# Altium schematic symbol library kmilo17pet-LT_OpAmp_LT1000.SchLib: 2280 symbols (part 71 of 79)
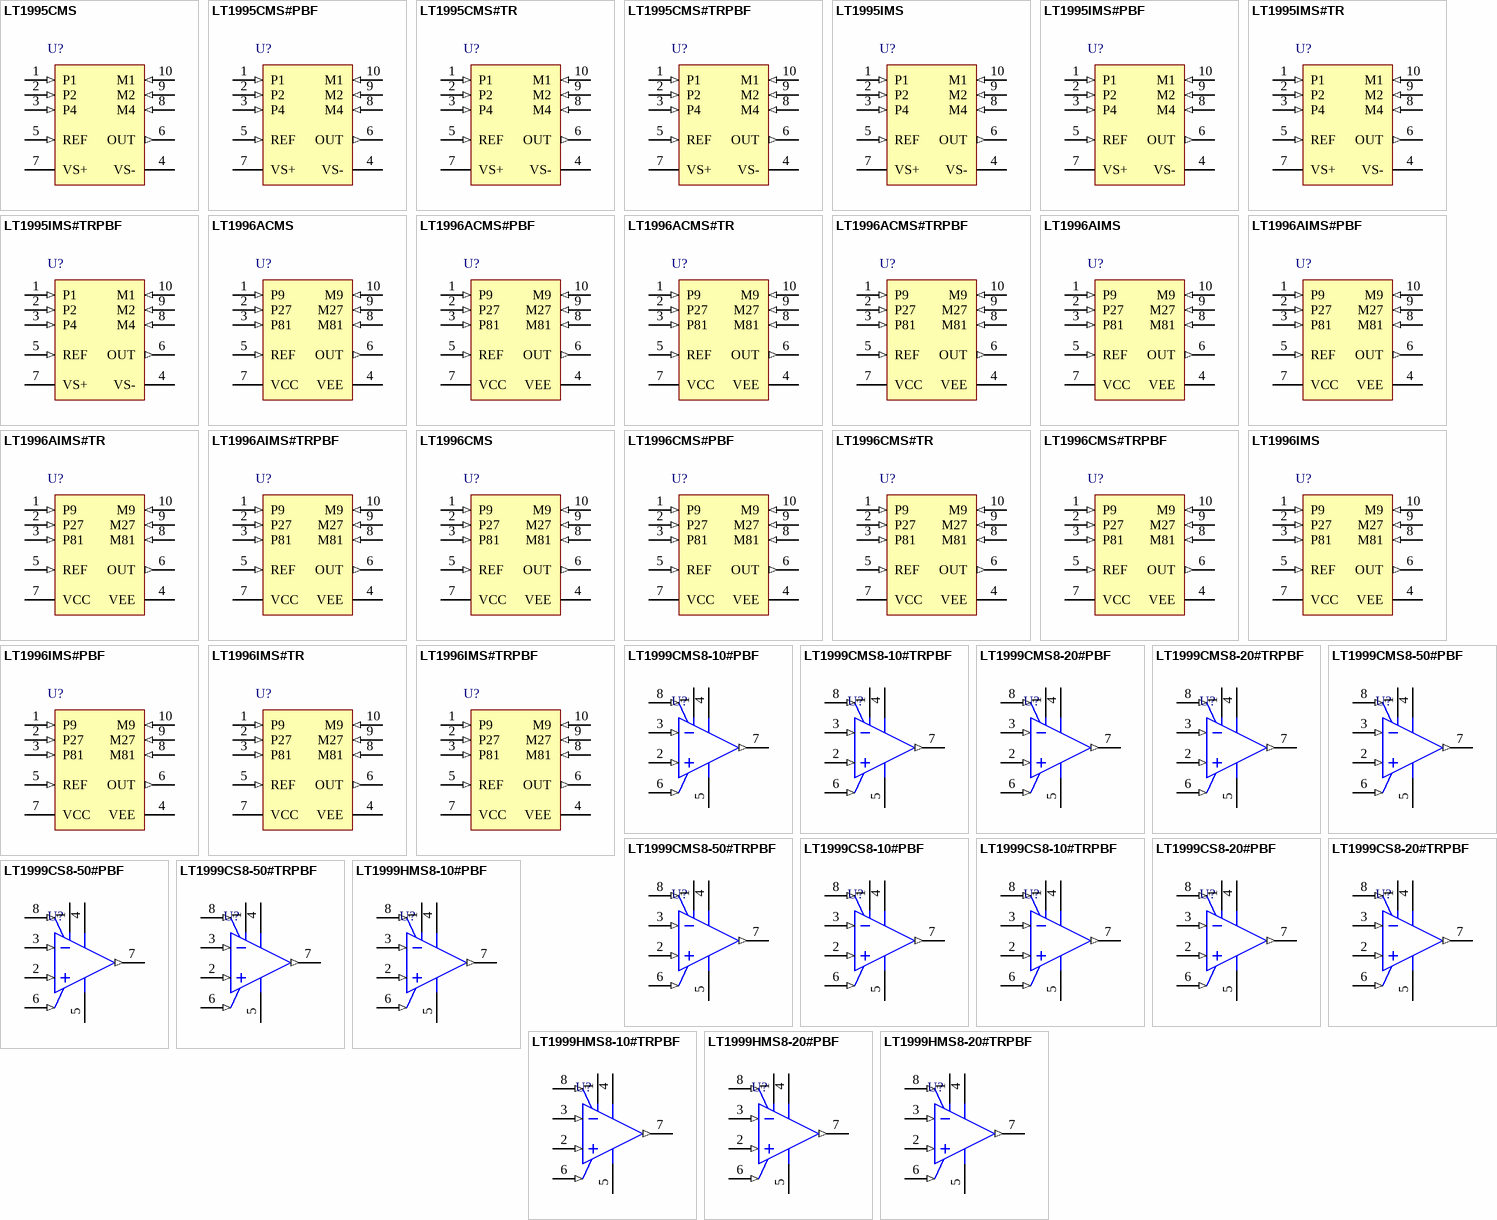
[diagram p175: symbols LT1995CMS to LT1999HMS8-20#TRPBF]

## LT1999HMS8-20#TRPBF
designator U?
Single Channel, High Voltage, Bidirectional Current Sense Amplifier, 2 MHz Typical GBW, 3 V/us Typical SR, 4.5 to 5.5 V, 8-Pin SOP (MS8-8), High Temperature / Automotive, Pb-Free, Reel; Linear Technology Part Number: LT1999-20; Manufacturer: Linear Technology; PartNumber: LT1999HMS8-20#TRPBF; Channels (#): 1; GBW (MHz) Typical: 2; Is (mA) Typical: 1.55; SR (V/us) Typical: 3; Vos (mV) Typical: 0.5; Vs Max (V): 5.5; Vs Min (V): 4.5; DatasheetVersion: Rev. B; PackageVersion: Rev G; PackageReference: LT-MS8-8; PackageDescription: 8-Lead Plastic Small Outline, Body 3.9 x 4.9 mm, Pitch 1.27 mm; Supplier 1: Digi-Key; Supplier Part Number 1: LT1999HMS8-20#TRPBF-ND; Packing: Reel; RoHS: Pb-Free; Type: CSA; Mounting Technology: Surface Mount; ComponentLink1Description: Manufacturer URL; ComponentLink1URL: http://www.linear.com/; ComponentLink2Description: Datasheet; ComponentLink2URL: http://cds.linear.com/docs/en/datasheet/1999fb.pdf; ComponentLink3Description: Package Specification; ComponentLink3URL: http://cds.linear.com/docs/en/packaging/05081610_G_SO8.pdf
footprint LT-MS8-8_N (SOP, 8-Leads, Body 3x3mm, Pitch 0.65mm, IPC Medium Density)
footprint LT-MS8-8_L (SOP, 8-Leads, Body 3x3mm, Pitch 0.65mm, IPC High Density)
footprint LT-MS8-8_M (SOP, 8-Leads, Body 3x3mm, Pitch 0.65mm, IPC Low Density)
pins: 1 V+ (power) "Power Supply Voltage. Pins 1 and 4 are tied internally together. The specified range of operation is 4.5V to 5.5V, but lower supply voltages (down to approximately 4V) is possible although the LT1999 is not tested or (See Datasheet)", 2 +IN (in) "Positive Sense Input Pin.", 3 -IN (in) "Negative Sense Input Pin.", 4 V+ (power) "Power Supply Voltage. Pins 1 and 4 are tied internally together. The specified range of operation is 4.5V to 5.5V, but lower supply voltages (down to approximately 4V) is possible although the LT1999 is not tested or (See Datasheet)", 5 GND (power) "Ground Pin.", 6 REF (in) "Reference Pin Input. The REF pin sets the output common mode level and is set halfway between V+ and GND using a divider made of two 160k resistors. The default open circuit potential of the REF pin is mid-supply. It can be (See Datasheet)", 7 OUT (out) "Voltage Output. VOUT = AV•(VSENSE +/- VOSI), where AV is the gain, and VOSI is the input referred offset voltage. The output amplifier has a low impedance output and is designed to drive up to 200pF capacitive loads directly.(See Datasheet)", 8 ~{SHDN} (in) "Shutdown Pin. When pulled to within 0.5V of GND (Pin 5), will place the LT1999 into low power shutdown. If the pin is left floating, an internal 2uA pullup current source will place the LT1999 into the active (amplifying) (See Datasheet)"

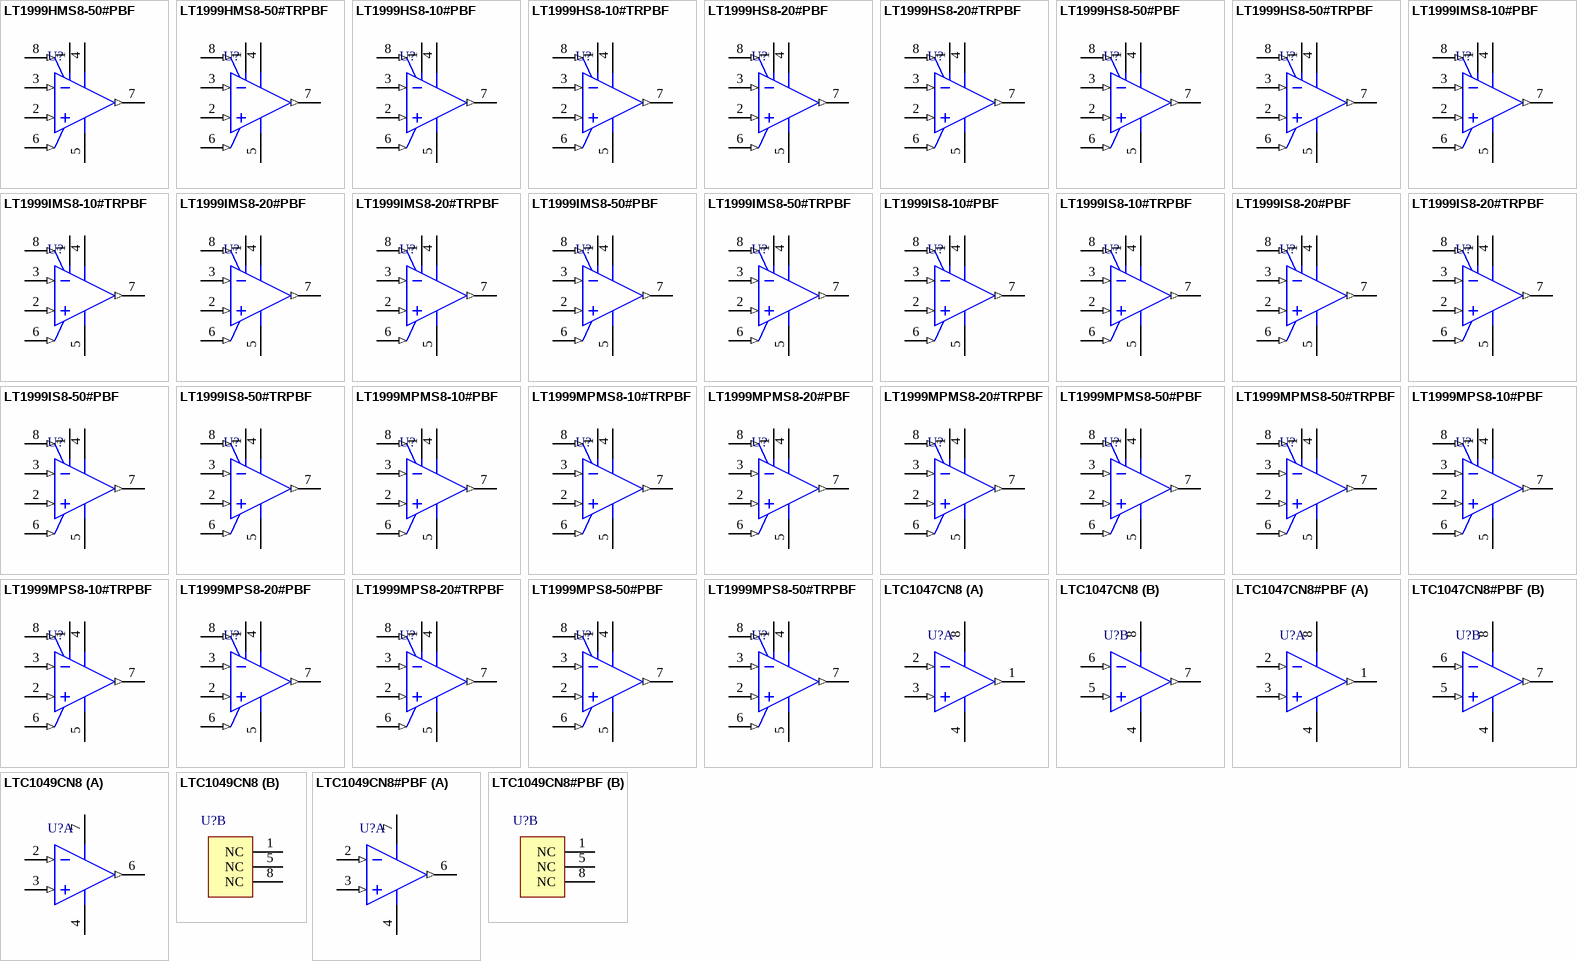
[diagram p100: symbols LT1999HMS8-50#PBF to LTC1049CN8#PBF]

## LT1999HMS8-50#PBF
designator U?
Single Channel, High Voltage, Bidirectional Current Sense Amplifier, 2 MHz Typical GBW, 3 V/us Typical SR, 4.5 to 5.5 V, 8-Pin SOP (MS8-8), High Temperature / Automotive, Pb-Free; Linear Technology Part Number: LT1999-50; Manufacturer: Linear Technology; PartNumber: LT1999HMS8-50#PBF; Channels (#): 1; GBW (MHz) Typical: 2; Is (mA) Typical: 1.55; SR (V/us) Typical: 3; Vos (mV) Typical: 0.5; Vs Max (V): 5.5; Vs Min (V): 4.5; DatasheetVersion: Rev. B; PackageVersion: Rev G; PackageReference: LT-MS8-8; PackageDescription: 8-Lead Plastic Small Outline, Body 3.9 x 4.9 mm, Pitch 1.27 mm; Supplier 1: Digi-Key; Supplier Part Number 1: LT1999HMS8-50#PBF-ND; Supplier 2: Farnell; Supplier Part Number 2: 1868099; RoHS: Pb-Free; Type: CSA; Mounting Technology: Surface Mount; ComponentLink1Description: Manufacturer URL; ComponentLink1URL: http://www.linear.com/; ComponentLink2Description: Datasheet; ComponentLink2URL: http://cds.linear.com/docs/en/datasheet/1999fb.pdf; ComponentLink3Description: Package Specification; ComponentLink3URL: http://cds.linear.com/docs/en/packaging/05081610_G_SO8.pdf
footprint LT-MS8-8_N (SOP, 8-Leads, Body 3x3mm, Pitch 0.65mm, IPC Medium Density)
footprint LT-MS8-8_L (SOP, 8-Leads, Body 3x3mm, Pitch 0.65mm, IPC High Density)
footprint LT-MS8-8_M (SOP, 8-Leads, Body 3x3mm, Pitch 0.65mm, IPC Low Density)
pins: 1 V+ (power) "Power Supply Voltage. Pins 1 and 4 are tied internally together. The specified range of operation is 4.5V to 5.5V, but lower supply voltages (down to approximately 4V) is possible although the LT1999 is not tested or (See Datasheet)", 2 +IN (in) "Positive Sense Input Pin.", 3 -IN (in) "Negative Sense Input Pin.", 4 V+ (power) "Power Supply Voltage. Pins 1 and 4 are tied internally together. The specified range of operation is 4.5V to 5.5V, but lower supply voltages (down to approximately 4V) is possible although the LT1999 is not tested or (See Datasheet)", 5 GND (power) "Ground Pin.", 6 REF (in) "Reference Pin Input. The REF pin sets the output common mode level and is set halfway between V+ and GND using a divider made of two 160k resistors. The default open circuit potential of the REF pin is mid-supply. It can be (See Datasheet)", 7 OUT (out) "Voltage Output. VOUT = AV•(VSENSE +/- VOSI), where AV is the gain, and VOSI is the input referred offset voltage. The output amplifier has a low impedance output and is designed to drive up to 200pF capacitive loads directly.(See Datasheet)", 8 ~{SHDN} (in) "Shutdown Pin. When pulled to within 0.5V of GND (Pin 5), will place the LT1999 into low power shutdown. If the pin is left floating, an internal 2uA pullup current source will place the LT1999 into the active (amplifying) (See Datasheet)"

## LT1999HMS8-50#TRPBF
designator U?
Single Channel, High Voltage, Bidirectional Current Sense Amplifier, 2 MHz Typical GBW, 3 V/us Typical SR, 4.5 to 5.5 V, 8-Pin SOP (MS8-8), High Temperature / Automotive, Pb-Free, Reel; Linear Technology Part Number: LT1999-50; Manufacturer: Linear Technology; PartNumber: LT1999HMS8-50#TRPBF; Channels (#): 1; GBW (MHz) Typical: 2; Is (mA) Typical: 1.55; SR (V/us) Typical: 3; Vos (mV) Typical: 0.5; Vs Max (V): 5.5; Vs Min (V): 4.5; DatasheetVersion: Rev. B; PackageVersion: Rev G; PackageReference: LT-MS8-8; PackageDescription: 8-Lead Plastic Small Outline, Body 3.9 x 4.9 mm, Pitch 1.27 mm; Supplier 1: Digi-Key; Supplier Part Number 1: LT1999HMS8-50#TRPBF-ND; Packing: Reel; RoHS: Pb-Free; Type: CSA; Mounting Technology: Surface Mount; ComponentLink1Description: Manufacturer URL; ComponentLink1URL: http://www.linear.com/; ComponentLink2Description: Datasheet; ComponentLink2URL: http://cds.linear.com/docs/en/datasheet/1999fb.pdf; ComponentLink3Description: Package Specification; ComponentLink3URL: http://cds.linear.com/docs/en/packaging/05081610_G_SO8.pdf
footprint LT-MS8-8_N (SOP, 8-Leads, Body 3x3mm, Pitch 0.65mm, IPC Medium Density)
footprint LT-MS8-8_L (SOP, 8-Leads, Body 3x3mm, Pitch 0.65mm, IPC High Density)
footprint LT-MS8-8_M (SOP, 8-Leads, Body 3x3mm, Pitch 0.65mm, IPC Low Density)
pins: 1 V+ (power) "Power Supply Voltage. Pins 1 and 4 are tied internally together. The specified range of operation is 4.5V to 5.5V, but lower supply voltages (down to approximately 4V) is possible although the LT1999 is not tested or (See Datasheet)", 2 +IN (in) "Positive Sense Input Pin.", 3 -IN (in) "Negative Sense Input Pin.", 4 V+ (power) "Power Supply Voltage. Pins 1 and 4 are tied internally together. The specified range of operation is 4.5V to 5.5V, but lower supply voltages (down to approximately 4V) is possible although the LT1999 is not tested or (See Datasheet)", 5 GND (power) "Ground Pin.", 6 REF (in) "Reference Pin Input. The REF pin sets the output common mode level and is set halfway between V+ and GND using a divider made of two 160k resistors. The default open circuit potential of the REF pin is mid-supply. It can be (See Datasheet)", 7 OUT (out) "Voltage Output. VOUT = AV•(VSENSE +/- VOSI), where AV is the gain, and VOSI is the input referred offset voltage. The output amplifier has a low impedance output and is designed to drive up to 200pF capacitive loads directly.(See Datasheet)", 8 ~{SHDN} (in) "Shutdown Pin. When pulled to within 0.5V of GND (Pin 5), will place the LT1999 into low power shutdown. If the pin is left floating, an internal 2uA pullup current source will place the LT1999 into the active (amplifying) (See Datasheet)"

## LT1999HS8-10#PBF
designator U?
Single Channel, High Voltage, Bidirectional Current Sense Amplifier, 2 MHz Typical GBW, 3 V/us Typical SR, 4.5 to 5.5 V, 8-Pin SOIC (S8-8), High Temperature / Automotive, Pb-Free; Linear Technology Part Number: LT1999-10; Manufacturer: Linear Technology; PartNumber: LT1999HS8-10#PBF; Channels (#): 1; GBW (MHz) Typical: 2; Is (mA) Typical: 1.55; SR (V/us) Typical: 3; Vos (mV) Typical: 0.5; Vs Max (V): 5.5; Vs Min (V): 4.5; DatasheetVersion: Rev. B; PackageVersion: Rev G; PackageReference: LT-S8-8; PackageDescription: 8-Pin Plastic Small Outline, Body 4.9 x 3.9 mm, Pitch 1.27 mm; Supplier 1: Digi-Key; Supplier Part Number 1: LT1999HS8-10#PBF-ND; Supplier 2: Farnell; Supplier Part Number 2: 1868101; RoHS: Pb-Free; Type: CSA; Mounting Technology: Surface Mount; ComponentLink1Description: Manufacturer URL; ComponentLink1URL: http://www.linear.com/; ComponentLink2Description: Datasheet; ComponentLink2URL: http://cds.linear.com/docs/en/datasheet/1999fb.pdf; ComponentLink3Description: Package Specification; ComponentLink3URL: http://cds.linear.com/docs/en/packaging/05081610_G_SO8.pdf
footprint LT-S8-8_N (SOIC, 8-Leads, Body 4.9x3.9mm, Pitch 1.27mm, IPC Medium Density)
footprint LT-S8-8_L (SOIC, 8-Leads, Body 4.9x3.9mm, Pitch 1.27mm, IPC High Density)
footprint LT-S8-8_M (SOIC, 8-Leads, Body 4.9x3.9mm, Pitch 1.27mm, IPC Low Density)
pins: 1 V+ (power) "Power Supply Voltage. Pins 1 and 4 are tied internally together. The specified range of operation is 4.5V to 5.5V, but lower supply voltages (down to approximately 4V) is possible although the LT1999 is not tested or (See Datasheet)", 2 +IN (in) "Positive Sense Input Pin.", 3 -IN (in) "Negative Sense Input Pin.", 4 V+ (power) "Power Supply Voltage. Pins 1 and 4 are tied internally together. The specified range of operation is 4.5V to 5.5V, but lower supply voltages (down to approximately 4V) is possible although the LT1999 is not tested or (See Datasheet)", 5 GND (power) "Ground Pin.", 6 REF (in) "Reference Pin Input. The REF pin sets the output common mode level and is set halfway between V+ and GND using a divider made of two 160k resistors. The default open circuit potential of the REF pin is mid-supply.It can be (See Datasheet)", 7 OUT (out) "Voltage Output. VOUT = AV•(VSENSE +/- VOSI),where AV is the gain, and VOSI is the input referred offset voltage. The output amplifier has a low impedance output and is designed to drive up to 200pF capacitive loads directly. (See Datasheet)", 8 ~{SHDN} (in) "Shutdown Pin. When pulled to within 0.5V of GND (Pin 5), will place the LT1999 into low power shutdown. If the pin is left floating, an internal 2uA pullup current source will place the LT1999 into the active (amplifying) (See Datasheet)"

## LT1999HS8-10#TRPBF
designator U?
Single Channel, High Voltage, Bidirectional Current Sense Amplifier, 2 MHz Typical GBW, 3 V/us Typical SR, 4.5 to 5.5 V, 8-Pin SOIC (S8-8), High Temperature / Automotive, Pb-Free, Reel; Linear Technology Part Number: LT1999-10; Manufacturer: Linear Technology; PartNumber: LT1999HS8-10#TRPBF; Channels (#): 1; GBW (MHz) Typical: 2; Is (mA) Typical: 1.55; SR (V/us) Typical: 3; Vos (mV) Typical: 0.5; Vs Max (V): 5.5; Vs Min (V): 4.5; DatasheetVersion: Rev. B; PackageVersion: Rev G; PackageReference: LT-S8-8; PackageDescription: 8-Pin Plastic Small Outline, Body 4.9 x 3.9 mm, Pitch 1.27 mm; Supplier 1: Digi-Key; Supplier Part Number 1: LT1999HS8-10#TRPBF-ND; Packing: Reel; RoHS: Pb-Free; Type: CSA; Mounting Technology: Surface Mount; ComponentLink1Description: Manufacturer URL; ComponentLink1URL: http://www.linear.com/; ComponentLink2Description: Datasheet; ComponentLink2URL: http://cds.linear.com/docs/en/datasheet/1999fb.pdf; ComponentLink3Description: Package Specification; ComponentLink3URL: http://cds.linear.com/docs/en/packaging/05081610_G_SO8.pdf
footprint LT-S8-8_N (SOIC, 8-Leads, Body 4.9x3.9mm, Pitch 1.27mm, IPC Medium Density)
footprint LT-S8-8_L (SOIC, 8-Leads, Body 4.9x3.9mm, Pitch 1.27mm, IPC High Density)
footprint LT-S8-8_M (SOIC, 8-Leads, Body 4.9x3.9mm, Pitch 1.27mm, IPC Low Density)
pins: 1 V+ (power) "Power Supply Voltage. Pins 1 and 4 are tied internally together. The specified range of operation is 4.5V to 5.5V, but lower supply voltages (down to approximately 4V) is possible although the LT1999 is not tested or (See Datasheet)", 2 +IN (in) "Positive Sense Input Pin.", 3 -IN (in) "Negative Sense Input Pin.", 4 V+ (power) "Power Supply Voltage. Pins 1 and 4 are tied internally together. The specified range of operation is 4.5V to 5.5V, but lower supply voltages (down to approximately 4V) is possible although the LT1999 is not tested or (See Datasheet)", 5 GND (power) "Ground Pin.", 6 REF (in) "Reference Pin Input. The REF pin sets the output common mode level and is set halfway between V+ and GND using a divider made of two 160k resistors. The default open circuit potential of the REF pin is mid-supply.It can be (See Datasheet)", 7 OUT (out) "Voltage Output. VOUT = AV•(VSENSE +/- VOSI),where AV is the gain, and VOSI is the input referred offset voltage. The output amplifier has a low impedance output and is designed to drive up to 200pF capacitive loads directly. (See Datasheet)", 8 ~{SHDN} (in) "Shutdown Pin. When pulled to within 0.5V of GND (Pin 5), will place the LT1999 into low power shutdown. If the pin is left floating, an internal 2uA pullup current source will place the LT1999 into the active (amplifying) (See Datasheet)"

## LT1999HS8-20#PBF
designator U?
Single Channel, High Voltage, Bidirectional Current Sense Amplifier, 2 MHz Typical GBW, 3 V/us Typical SR, 4.5 to 5.5 V, 8-Pin SOIC (S8-8), High Temperature / Automotive, Pb-Free; Linear Technology Part Number: LT1999-20; Manufacturer: Linear Technology; PartNumber: LT1999HS8-20#PBF; Channels (#): 1; GBW (MHz) Typical: 2; Is (mA) Typical: 1.55; SR (V/us) Typical: 3; Vos (mV) Typical: 0.5; Vs Max (V): 5.5; Vs Min (V): 4.5; DatasheetVersion: Rev. B; PackageVersion: Rev G; PackageReference: LT-S8-8; PackageDescription: 8-Pin Plastic Small Outline, Body 4.9 x 3.9 mm, Pitch 1.27 mm; Supplier 1: Digi-Key; Supplier Part Number 1: LT1999HS8-20#PBF-ND; Supplier 2: Farnell; Supplier Part Number 2: 1868102; RoHS: Pb-Free; Type: CSA; Mounting Technology: Surface Mount; ComponentLink1Description: Manufacturer URL; ComponentLink1URL: http://www.linear.com/; ComponentLink2Description: Datasheet; ComponentLink2URL: http://cds.linear.com/docs/en/datasheet/1999fb.pdf; ComponentLink3Description: Package Specification; ComponentLink3URL: http://cds.linear.com/docs/en/packaging/05081610_G_SO8.pdf
footprint LT-S8-8_N (SOIC, 8-Leads, Body 4.9x3.9mm, Pitch 1.27mm, IPC Medium Density)
footprint LT-S8-8_L (SOIC, 8-Leads, Body 4.9x3.9mm, Pitch 1.27mm, IPC High Density)
footprint LT-S8-8_M (SOIC, 8-Leads, Body 4.9x3.9mm, Pitch 1.27mm, IPC Low Density)
pins: 1 V+ (power) "Power Supply Voltage. Pins 1 and 4 are tied internally together. The specified range of operation is 4.5V to 5.5V, but lower supply voltages (down to approximately 4V) is possible although the LT1999 is not tested or (See Datasheet)", 2 +IN (in) "Positive Sense Input Pin.", 3 -IN (in) "Negative Sense Input Pin.", 4 V+ (power) "Power Supply Voltage. Pins 1 and 4 are tied internally together. The specified range of operation is 4.5V to 5.5V, but lower supply voltages (down to approximately 4V) is possible although the LT1999 is not tested or (See Datasheet)", 5 GND (power) "Ground Pin.", 6 REF (in) "Reference Pin Input. The REF pin sets the output common mode level and is set halfway between V+ and GND using a divider made of two 160k resistors. The default open circuit potential of the REF pin is mid-supply.It can be (See Datasheet)", 7 OUT (out) "Voltage Output. VOUT = AV•(VSENSE +/- VOSI),where AV is the gain, and VOSI is the input referred offset voltage. The output amplifier has a low impedance output and is designed to drive up to 200pF capacitive loads directly. (See Datasheet)", 8 ~{SHDN} (in) "Shutdown Pin. When pulled to within 0.5V of GND (Pin 5), will place the LT1999 into low power shutdown. If the pin is left floating, an internal 2uA pullup current source will place the LT1999 into the active (amplifying) (See Datasheet)"

## LT1999HS8-20#TRPBF
designator U?
Single Channel, High Voltage, Bidirectional Current Sense Amplifier, 2 MHz Typical GBW, 3 V/us Typical SR, 4.5 to 5.5 V, 8-Pin SOIC (S8-8), High Temperature / Automotive, Pb-Free, Reel; Linear Technology Part Number: LT1999-20; Manufacturer: Linear Technology; PartNumber: LT1999HS8-20#TRPBF; Channels (#): 1; GBW (MHz) Typical: 2; Is (mA) Typical: 1.55; SR (V/us) Typical: 3; Vos (mV) Typical: 0.5; Vs Max (V): 5.5; Vs Min (V): 4.5; DatasheetVersion: Rev. B; PackageVersion: Rev G; PackageReference: LT-S8-8; PackageDescription: 8-Pin Plastic Small Outline, Body 4.9 x 3.9 mm, Pitch 1.27 mm; Supplier 1: Digi-Key; Supplier Part Number 1: LT1999HS8-20#TRPBF-ND; Packing: Reel; RoHS: Pb-Free; Type: CSA; Mounting Technology: Surface Mount; ComponentLink1Description: Manufacturer URL; ComponentLink1URL: http://www.linear.com/; ComponentLink2Description: Datasheet; ComponentLink2URL: http://cds.linear.com/docs/en/datasheet/1999fb.pdf; ComponentLink3Description: Package Specification; ComponentLink3URL: http://cds.linear.com/docs/en/packaging/05081610_G_SO8.pdf
footprint LT-S8-8_N (SOIC, 8-Leads, Body 4.9x3.9mm, Pitch 1.27mm, IPC Medium Density)
footprint LT-S8-8_L (SOIC, 8-Leads, Body 4.9x3.9mm, Pitch 1.27mm, IPC High Density)
footprint LT-S8-8_M (SOIC, 8-Leads, Body 4.9x3.9mm, Pitch 1.27mm, IPC Low Density)
pins: 1 V+ (power) "Power Supply Voltage. Pins 1 and 4 are tied internally together. The specified range of operation is 4.5V to 5.5V, but lower supply voltages (down to approximately 4V) is possible although the LT1999 is not tested or (See Datasheet)", 2 +IN (in) "Positive Sense Input Pin.", 3 -IN (in) "Negative Sense Input Pin.", 4 V+ (power) "Power Supply Voltage. Pins 1 and 4 are tied internally together. The specified range of operation is 4.5V to 5.5V, but lower supply voltages (down to approximately 4V) is possible although the LT1999 is not tested or (See Datasheet)", 5 GND (power) "Ground Pin.", 6 REF (in) "Reference Pin Input. The REF pin sets the output common mode level and is set halfway between V+ and GND using a divider made of two 160k resistors. The default open circuit potential of the REF pin is mid-supply.It can be (See Datasheet)", 7 OUT (out) "Voltage Output. VOUT = AV•(VSENSE +/- VOSI),where AV is the gain, and VOSI is the input referred offset voltage. The output amplifier has a low impedance output and is designed to drive up to 200pF capacitive loads directly. (See Datasheet)", 8 ~{SHDN} (in) "Shutdown Pin. When pulled to within 0.5V of GND (Pin 5), will place the LT1999 into low power shutdown. If the pin is left floating, an internal 2uA pullup current source will place the LT1999 into the active (amplifying) (See Datasheet)"

## LT1999HS8-50#PBF
designator U?
Single Channel, High Voltage, Bidirectional Current Sense Amplifier, 2 MHz Typical GBW, 3 V/us Typical SR, 4.5 to 5.5 V, 8-Pin SOIC (S8-8), High Temperature / Automotive, Pb-Free; Linear Technology Part Number: LT1999-50; Manufacturer: Linear Technology; PartNumber: LT1999HS8-50#PBF; Channels (#): 1; GBW (MHz) Typical: 2; Is (mA) Typical: 1.55; SR (V/us) Typical: 3; Vos (mV) Typical: 0.5; Vs Max (V): 5.5; Vs Min (V): 4.5; DatasheetVersion: Rev. B; PackageVersion: Rev G; PackageReference: LT-S8-8; PackageDescription: 8-Pin Plastic Small Outline, Body 4.9 x 3.9 mm, Pitch 1.27 mm; Supplier 1: Digi-Key; Supplier Part Number 1: LT1999HS8-50#PBF-ND; Supplier 2: Farnell; Supplier Part Number 2: 1868103; RoHS: Pb-Free; Type: CSA; Mounting Technology: Surface Mount; ComponentLink1Description: Manufacturer URL; ComponentLink1URL: http://www.linear.com/; ComponentLink2Description: Datasheet; ComponentLink2URL: http://cds.linear.com/docs/en/datasheet/1999fb.pdf; ComponentLink3Description: Package Specification; ComponentLink3URL: http://cds.linear.com/docs/en/packaging/05081610_G_SO8.pdf
footprint LT-S8-8_N (SOIC, 8-Leads, Body 4.9x3.9mm, Pitch 1.27mm, IPC Medium Density)
footprint LT-S8-8_L (SOIC, 8-Leads, Body 4.9x3.9mm, Pitch 1.27mm, IPC High Density)
footprint LT-S8-8_M (SOIC, 8-Leads, Body 4.9x3.9mm, Pitch 1.27mm, IPC Low Density)
pins: 1 V+ (power) "Power Supply Voltage. Pins 1 and 4 are tied internally together. The specified range of operation is 4.5V to 5.5V, but lower supply voltages (down to approximately 4V) is possible although the LT1999 is not tested or (See Datasheet)", 2 +IN (in) "Positive Sense Input Pin.", 3 -IN (in) "Negative Sense Input Pin.", 4 V+ (power) "Power Supply Voltage. Pins 1 and 4 are tied internally together. The specified range of operation is 4.5V to 5.5V, but lower supply voltages (down to approximately 4V) is possible although the LT1999 is not tested or (See Datasheet)", 5 GND (power) "Ground Pin.", 6 REF (in) "Reference Pin Input. The REF pin sets the output common mode level and is set halfway between V+ and GND using a divider made of two 160k resistors. The default open circuit potential of the REF pin is mid-supply.It can be (See Datasheet)", 7 OUT (out) "Voltage Output. VOUT = AV•(VSENSE +/- VOSI),where AV is the gain, and VOSI is the input referred offset voltage. The output amplifier has a low impedance output and is designed to drive up to 200pF capacitive loads directly. (See Datasheet)", 8 ~{SHDN} (in) "Shutdown Pin. When pulled to within 0.5V of GND (Pin 5), will place the LT1999 into low power shutdown. If the pin is left floating, an internal 2uA pullup current source will place the LT1999 into the active (amplifying) (See Datasheet)"

## LT1999HS8-50#TRPBF
designator U?
Single Channel, High Voltage, Bidirectional Current Sense Amplifier, 2 MHz Typical GBW, 3 V/us Typical SR, 4.5 to 5.5 V, 8-Pin SOIC (S8-8), High Temperature / Automotive, Pb-Free, Reel; Linear Technology Part Number: LT1999-50; Manufacturer: Linear Technology; PartNumber: LT1999HS8-50#TRPBF; Channels (#): 1; GBW (MHz) Typical: 2; Is (mA) Typical: 1.55; SR (V/us) Typical: 3; Vos (mV) Typical: 0.5; Vs Max (V): 5.5; Vs Min (V): 4.5; DatasheetVersion: Rev. B; PackageVersion: Rev G; PackageReference: LT-S8-8; PackageDescription: 8-Pin Plastic Small Outline, Body 4.9 x 3.9 mm, Pitch 1.27 mm; Supplier 1: Digi-Key; Supplier Part Number 1: LT1999HS8-50#TRPBF-ND; Packing: Reel; RoHS: Pb-Free; Type: CSA; Mounting Technology: Surface Mount; ComponentLink1Description: Manufacturer URL; ComponentLink1URL: http://www.linear.com/; ComponentLink2Description: Datasheet; ComponentLink2URL: http://cds.linear.com/docs/en/datasheet/1999fb.pdf; ComponentLink3Description: Package Specification; ComponentLink3URL: http://cds.linear.com/docs/en/packaging/05081610_G_SO8.pdf
footprint LT-S8-8_N (SOIC, 8-Leads, Body 4.9x3.9mm, Pitch 1.27mm, IPC Medium Density)
footprint LT-S8-8_L (SOIC, 8-Leads, Body 4.9x3.9mm, Pitch 1.27mm, IPC High Density)
footprint LT-S8-8_M (SOIC, 8-Leads, Body 4.9x3.9mm, Pitch 1.27mm, IPC Low Density)
pins: 1 V+ (power) "Power Supply Voltage. Pins 1 and 4 are tied internally together. The specified range of operation is 4.5V to 5.5V, but lower supply voltages (down to approximately 4V) is possible although the LT1999 is not tested or (See Datasheet)", 2 +IN (in) "Positive Sense Input Pin.", 3 -IN (in) "Negative Sense Input Pin.", 4 V+ (power) "Power Supply Voltage. Pins 1 and 4 are tied internally together. The specified range of operation is 4.5V to 5.5V, but lower supply voltages (down to approximately 4V) is possible although the LT1999 is not tested or (See Datasheet)", 5 GND (power) "Ground Pin.", 6 REF (in) "Reference Pin Input. The REF pin sets the output common mode level and is set halfway between V+ and GND using a divider made of two 160k resistors. The default open circuit potential of the REF pin is mid-supply.It can be (See Datasheet)", 7 OUT (out) "Voltage Output. VOUT = AV•(VSENSE +/- VOSI),where AV is the gain, and VOSI is the input referred offset voltage. The output amplifier has a low impedance output and is designed to drive up to 200pF capacitive loads directly. (See Datasheet)", 8 ~{SHDN} (in) "Shutdown Pin. When pulled to within 0.5V of GND (Pin 5), will place the LT1999 into low power shutdown. If the pin is left floating, an internal 2uA pullup current source will place the LT1999 into the active (amplifying) (See Datasheet)"

## LT1999IMS8-10#PBF
designator U?
Single Channel, High Voltage, Bidirectional Current Sense Amplifier, 2 MHz Typical GBW, 3 V/us Typical SR, 4.5 to 5.5 V, 8-Pin SOP (MS8-8), Industrial, Pb-Free; Linear Technology Part Number: LT1999-10; Manufacturer: Linear Technology; PartNumber: LT1999IMS8-10#PBF; Channels (#): 1; GBW (MHz) Typical: 2; Is (mA) Typical: 1.55; SR (V/us) Typical: 3; Vos (mV) Typical: 0.5; Vs Max (V): 5.5; Vs Min (V): 4.5; DatasheetVersion: Rev. B; PackageVersion: Rev G; PackageReference: LT-MS8-8; PackageDescription: 8-Lead Plastic Small Outline, Body 3.9 x 4.9 mm, Pitch 1.27 mm; Supplier 1: Digi-Key; Supplier Part Number 1: LT1999IMS8-10#PBF-ND; Supplier 2: Farnell; Supplier Part Number 2: 2009058; RoHS: Pb-Free; Type: CSA; Mounting Technology: Surface Mount; ComponentLink1Description: Manufacturer URL; ComponentLink1URL: http://www.linear.com/; ComponentLink2Description: Datasheet; ComponentLink2URL: http://cds.linear.com/docs/en/datasheet/1999fb.pdf; ComponentLink3Description: Package Specification; ComponentLink3URL: http://cds.linear.com/docs/en/packaging/05081610_G_SO8.pdf
footprint LT-MS8-8_N (SOP, 8-Leads, Body 3x3mm, Pitch 0.65mm, IPC Medium Density)
footprint LT-MS8-8_L (SOP, 8-Leads, Body 3x3mm, Pitch 0.65mm, IPC High Density)
footprint LT-MS8-8_M (SOP, 8-Leads, Body 3x3mm, Pitch 0.65mm, IPC Low Density)
pins: 1 V+ (power) "Power Supply Voltage. Pins 1 and 4 are tied internally together. The specified range of operation is 4.5V to 5.5V, but lower supply voltages (down to approximately 4V) is possible although the LT1999 is not tested or (See Datasheet)", 2 +IN (in) "Positive Sense Input Pin.", 3 -IN (in) "Negative Sense Input Pin.", 4 V+ (power) "Power Supply Voltage. Pins 1 and 4 are tied internally together. The specified range of operation is 4.5V to 5.5V, but lower supply voltages (down to approximately 4V) is possible although the LT1999 is not tested or (See Datasheet)", 5 GND (power) "Ground Pin.", 6 REF (in) "Reference Pin Input. The REF pin sets the output common mode level and is set halfway between V+ and GND using a divider made of two 160k resistors. The default open circuit potential of the REF pin is mid-supply.It can be (See Datasheet)", 7 OUT (out) "Voltage Output. VOUT = AV•(VSENSE +/- VOSI),where AV is the gain, and VOSI is the input referred offset voltage. The output amplifier has a low impedance output and is designed to drive up to 200pF capacitive loads directly. (See Datasheet)", 8 ~{SHDN} (in) "Shutdown Pin. When pulled to within 0.5V of GND (Pin 5), will place the LT1999 into low power shutdown. If the pin is left floating, an internal 2uA pullup current source will place the LT1999 into the active (amplifying) (See Datasheet)"

## LT1999IMS8-10#TRPBF
designator U?
Single Channel, High Voltage, Bidirectional Current Sense Amplifier, 2 MHz Typical GBW, 3 V/us Typical SR, 4.5 to 5.5 V, 8-Pin SOP (MS8-8), Industrial, Pb-Free, Reel; Linear Technology Part Number: LT1999-10; Manufacturer: Linear Technology; PartNumber: LT1999IMS8-10#TRPBF; Channels (#): 1; GBW (MHz) Typical: 2; Is (mA) Typical: 1.55; SR (V/us) Typical: 3; Vos (mV) Typical: 0.5; Vs Max (V): 5.5; Vs Min (V): 4.5; DatasheetVersion: Rev. B; PackageVersion: Rev G; PackageReference: LT-MS8-8; PackageDescription: 8-Lead Plastic Small Outline, Body 3.9 x 4.9 mm, Pitch 1.27 mm; Supplier 1: Digi-Key; Supplier Part Number 1: LT1999IMS8-10#TRPBF-ND; Packing: Reel; RoHS: Pb-Free; Type: CSA; Mounting Technology: Surface Mount; ComponentLink1Description: Manufacturer URL; ComponentLink1URL: http://www.linear.com/; ComponentLink2Description: Datasheet; ComponentLink2URL: http://cds.linear.com/docs/en/datasheet/1999fb.pdf; ComponentLink3Description: Package Specification; ComponentLink3URL: http://cds.linear.com/docs/en/packaging/05081610_G_SO8.pdf
footprint LT-MS8-8_N (SOP, 8-Leads, Body 3x3mm, Pitch 0.65mm, IPC Medium Density)
footprint LT-MS8-8_L (SOP, 8-Leads, Body 3x3mm, Pitch 0.65mm, IPC High Density)
footprint LT-MS8-8_M (SOP, 8-Leads, Body 3x3mm, Pitch 0.65mm, IPC Low Density)
pins: 1 V+ (power) "Power Supply Voltage. Pins 1 and 4 are tied internally together. The specified range of operation is 4.5V to 5.5V, but lower supply voltages (down to approximately 4V) is possible although the LT1999 is not tested or (See Datasheet)", 2 +IN (in) "Positive Sense Input Pin.", 3 -IN (in) "Negative Sense Input Pin.", 4 V+ (power) "Power Supply Voltage. Pins 1 and 4 are tied internally together. The specified range of operation is 4.5V to 5.5V, but lower supply voltages (down to approximately 4V) is possible although the LT1999 is not tested or (See Datasheet)", 5 GND (power) "Ground Pin.", 6 REF (in) "Reference Pin Input. The REF pin sets the output common mode level and is set halfway between V+ and GND using a divider made of two 160k resistors. The default open circuit potential of the REF pin is mid-supply.It can be (See Datasheet)", 7 OUT (out) "Voltage Output. VOUT = AV•(VSENSE +/- VOSI),where AV is the gain, and VOSI is the input referred offset voltage. The output amplifier has a low impedance output and is designed to drive up to 200pF capacitive loads directly. (See Datasheet)", 8 ~{SHDN} (in) "Shutdown Pin. When pulled to within 0.5V of GND (Pin 5), will place the LT1999 into low power shutdown. If the pin is left floating, an internal 2uA pullup current source will place the LT1999 into the active (amplifying) (See Datasheet)"

## LT1999IMS8-20#PBF
designator U?
Single Channel, High Voltage, Bidirectional Current Sense Amplifier, 2 MHz Typical GBW, 3 V/us Typical SR, 4.5 to 5.5 V, 8-Pin SOP (MS8-8), Industrial, Pb-Free; Linear Technology Part Number: LT1999-20; Manufacturer: Linear Technology; PartNumber: LT1999IMS8-20#PBF; Channels (#): 1; GBW (MHz) Typical: 2; Is (mA) Typical: 1.55; SR (V/us) Typical: 3; Vos (mV) Typical: 0.5; Vs Max (V): 5.5; Vs Min (V): 4.5; DatasheetVersion: Rev. B; PackageVersion: Rev G; PackageReference: LT-MS8-8; PackageDescription: 8-Lead Plastic Small Outline, Body 3.9 x 4.9 mm, Pitch 1.27 mm; Supplier 1: Digi-Key; Supplier Part Number 1: LT1999IMS8-20#PBF-ND; Supplier 2: Farnell; Supplier Part Number 2: 1868104; RoHS: Pb-Free; Type: CSA; Mounting Technology: Surface Mount; ComponentLink1Description: Manufacturer URL; ComponentLink1URL: http://www.linear.com/; ComponentLink2Description: Datasheet; ComponentLink2URL: http://cds.linear.com/docs/en/datasheet/1999fb.pdf; ComponentLink3Description: Package Specification; ComponentLink3URL: http://cds.linear.com/docs/en/packaging/05081610_G_SO8.pdf
footprint LT-MS8-8_N (SOP, 8-Leads, Body 3x3mm, Pitch 0.65mm, IPC Medium Density)
footprint LT-MS8-8_L (SOP, 8-Leads, Body 3x3mm, Pitch 0.65mm, IPC High Density)
footprint LT-MS8-8_M (SOP, 8-Leads, Body 3x3mm, Pitch 0.65mm, IPC Low Density)
pins: 1 V+ (power) "Power Supply Voltage. Pins 1 and 4 are tied internally together. The specified range of operation is 4.5V to 5.5V, but lower supply voltages (down to approximately 4V) is possible although the LT1999 is not tested or (See Datasheet)", 2 +IN (in) "Positive Sense Input Pin.", 3 -IN (in) "Negative Sense Input Pin.", 4 V+ (power) "Power Supply Voltage. Pins 1 and 4 are tied internally together. The specified range of operation is 4.5V to 5.5V, but lower supply voltages (down to approximately 4V) is possible although the LT1999 is not tested or (See Datasheet)", 5 GND (power) "Ground Pin.", 6 REF (in) "Reference Pin Input. The REF pin sets the output common mode level and is set halfway between V+ and GND using a divider made of two 160k resistors. The default open circuit potential of the REF pin is mid-supply. It can be (See Datasheet)", 7 OUT (out) "Voltage Output. VOUT = AV•(VSENSE +/- VOSI), where AV is the gain, and VOSI is the input referred offset voltage. The output amplifier has a low impedance output and is designed to drive up to 200pF capacitive loads directly.(See Datasheet)", 8 ~{SHDN} (in) "Shutdown Pin. When pulled to within 0.5V of GND (Pin 5), will place the LT1999 into low power shutdown. If the pin is left floating, an internal 2uA pullup current source will place the LT1999 into the active (amplifying) (See Datasheet)"

## LT1999IMS8-20#TRPBF
designator U?
Single Channel, High Voltage, Bidirectional Current Sense Amplifier, 2 MHz Typical GBW, 3 V/us Typical SR, 4.5 to 5.5 V, 8-Pin SOP (MS8-8), Industrial, Pb-Free, Reel; Linear Technology Part Number: LT1999-20; Manufacturer: Linear Technology; PartNumber: LT1999IMS8-20#TRPBF; Channels (#): 1; GBW (MHz) Typical: 2; Is (mA) Typical: 1.55; SR (V/us) Typical: 3; Vos (mV) Typical: 0.5; Vs Max (V): 5.5; Vs Min (V): 4.5; DatasheetVersion: Rev. B; PackageVersion: Rev G; PackageReference: LT-MS8-8; PackageDescription: 8-Lead Plastic Small Outline, Body 3.9 x 4.9 mm, Pitch 1.27 mm; Supplier 1: Digi-Key; Supplier Part Number 1: LT1999IMS8-20#TRPBF-ND; Packing: Reel; RoHS: Pb-Free; Type: CSA; Mounting Technology: Surface Mount; ComponentLink1Description: Manufacturer URL; ComponentLink1URL: http://www.linear.com/; ComponentLink2Description: Datasheet; ComponentLink2URL: http://cds.linear.com/docs/en/datasheet/1999fb.pdf; ComponentLink3Description: Package Specification; ComponentLink3URL: http://cds.linear.com/docs/en/packaging/05081610_G_SO8.pdf
footprint LT-MS8-8_N (SOP, 8-Leads, Body 3x3mm, Pitch 0.65mm, IPC Medium Density)
footprint LT-MS8-8_L (SOP, 8-Leads, Body 3x3mm, Pitch 0.65mm, IPC High Density)
footprint LT-MS8-8_M (SOP, 8-Leads, Body 3x3mm, Pitch 0.65mm, IPC Low Density)
pins: 1 V+ (power) "Power Supply Voltage. Pins 1 and 4 are tied internally together. The specified range of operation is 4.5V to 5.5V, but lower supply voltages (down to approximately 4V) is possible although the LT1999 is not tested or (See Datasheet)", 2 +IN (in) "Positive Sense Input Pin.", 3 -IN (in) "Negative Sense Input Pin.", 4 V+ (power) "Power Supply Voltage. Pins 1 and 4 are tied internally together. The specified range of operation is 4.5V to 5.5V, but lower supply voltages (down to approximately 4V) is possible although the LT1999 is not tested or (See Datasheet)", 5 GND (power) "Ground Pin.", 6 REF (in) "Reference Pin Input. The REF pin sets the output common mode level and is set halfway between V+ and GND using a divider made of two 160k resistors. The default open circuit potential of the REF pin is mid-supply. It can be (See Datasheet)", 7 OUT (out) "Voltage Output. VOUT = AV•(VSENSE +/- VOSI), where AV is the gain, and VOSI is the input referred offset voltage. The output amplifier has a low impedance output and is designed to drive up to 200pF capacitive loads directly.(See Datasheet)", 8 ~{SHDN} (in) "Shutdown Pin. When pulled to within 0.5V of GND (Pin 5), will place the LT1999 into low power shutdown. If the pin is left floating, an internal 2uA pullup current source will place the LT1999 into the active (amplifying) (See Datasheet)"

## LT1999IMS8-50#PBF
designator U?
Single Channel, High Voltage, Bidirectional Current Sense Amplifier, 2 MHz Typical GBW, 3 V/us Typical SR, 4.5 to 5.5 V, 8-Pin SOP (MS8-8), Industrial, Pb-Free; Linear Technology Part Number: LT1999-50; Manufacturer: Linear Technology; PartNumber: LT1999IMS8-50#PBF; Channels (#): 1; GBW (MHz) Typical: 2; Is (mA) Typical: 1.55; SR (V/us) Typical: 3; Vos (mV) Typical: 0.5; Vs Max (V): 5.5; Vs Min (V): 4.5; DatasheetVersion: Rev. B; PackageVersion: Rev G; PackageReference: LT-MS8-8; PackageDescription: 8-Lead Plastic Small Outline, Body 3.9 x 4.9 mm, Pitch 1.27 mm; Supplier 1: Digi-Key; Supplier Part Number 1: LT1999IMS8-50#PBF-ND; Supplier 2: Farnell; Supplier Part Number 2: 1868105; RoHS: Pb-Free; Type: CSA; Mounting Technology: Surface Mount; ComponentLink1Description: Manufacturer URL; ComponentLink1URL: http://www.linear.com/; ComponentLink2Description: Datasheet; ComponentLink2URL: http://cds.linear.com/docs/en/datasheet/1999fb.pdf; ComponentLink3Description: Package Specification; ComponentLink3URL: http://cds.linear.com/docs/en/packaging/05081610_G_SO8.pdf
footprint LT-MS8-8_N (SOP, 8-Leads, Body 3x3mm, Pitch 0.65mm, IPC Medium Density)
footprint LT-MS8-8_L (SOP, 8-Leads, Body 3x3mm, Pitch 0.65mm, IPC High Density)
footprint LT-MS8-8_M (SOP, 8-Leads, Body 3x3mm, Pitch 0.65mm, IPC Low Density)
pins: 1 V+ (power) "Power Supply Voltage. Pins 1 and 4 are tied internally together. The specified range of operation is 4.5V to 5.5V, but lower supply voltages (down to approximately 4V) is possible although the LT1999 is not tested or (See Datasheet)", 2 +IN (in) "Positive Sense Input Pin.", 3 -IN (in) "Negative Sense Input Pin.", 4 V+ (power) "Power Supply Voltage. Pins 1 and 4 are tied internally together. The specified range of operation is 4.5V to 5.5V, but lower supply voltages (down to approximately 4V) is possible although the LT1999 is not tested or (See Datasheet)", 5 GND (power) "Ground Pin.", 6 REF (in) "Reference Pin Input. The REF pin sets the output common mode level and is set halfway between V+ and GND using a divider made of two 160k resistors. The default open circuit potential of the REF pin is mid-supply. It can be (See Datasheet)", 7 OUT (out) "Voltage Output. VOUT = AV•(VSENSE +/- VOSI), where AV is the gain, and VOSI is the input referred offset voltage. The output amplifier has a low impedance output and is designed to drive up to 200pF capacitive loads directly.(See Datasheet)", 8 ~{SHDN} (in) "Shutdown Pin. When pulled to within 0.5V of GND (Pin 5), will place the LT1999 into low power shutdown. If the pin is left floating, an internal 2uA pullup current source will place the LT1999 into the active (amplifying) (See Datasheet)"

## LT1999IMS8-50#TRPBF
designator U?
Single Channel, High Voltage, Bidirectional Current Sense Amplifier, 2 MHz Typical GBW, 3 V/us Typical SR, 4.5 to 5.5 V, 8-Pin SOP (MS8-8), Industrial, Pb-Free, Reel; Linear Technology Part Number: LT1999-50; Manufacturer: Linear Technology; PartNumber: LT1999IMS8-50#TRPBF; Channels (#): 1; GBW (MHz) Typical: 2; Is (mA) Typical: 1.55; SR (V/us) Typical: 3; Vos (mV) Typical: 0.5; Vs Max (V): 5.5; Vs Min (V): 4.5; DatasheetVersion: Rev. B; PackageVersion: Rev G; PackageReference: LT-MS8-8; PackageDescription: 8-Lead Plastic Small Outline, Body 3.9 x 4.9 mm, Pitch 1.27 mm; Supplier 1: Digi-Key; Supplier Part Number 1: LT1999IMS8-50#TRPBF-ND; Packing: Reel; RoHS: Pb-Free; Type: CSA; Mounting Technology: Surface Mount; ComponentLink1Description: Manufacturer URL; ComponentLink1URL: http://www.linear.com/; ComponentLink2Description: Datasheet; ComponentLink2URL: http://cds.linear.com/docs/en/datasheet/1999fb.pdf; ComponentLink3Description: Package Specification; ComponentLink3URL: http://cds.linear.com/docs/en/packaging/05081610_G_SO8.pdf
footprint LT-MS8-8_N (SOP, 8-Leads, Body 3x3mm, Pitch 0.65mm, IPC Medium Density)
footprint LT-MS8-8_L (SOP, 8-Leads, Body 3x3mm, Pitch 0.65mm, IPC High Density)
footprint LT-MS8-8_M (SOP, 8-Leads, Body 3x3mm, Pitch 0.65mm, IPC Low Density)
pins: 1 V+ (power) "Power Supply Voltage. Pins 1 and 4 are tied internally together. The specified range of operation is 4.5V to 5.5V, but lower supply voltages (down to approximately 4V) is possible although the LT1999 is not tested or (See Datasheet)", 2 +IN (in) "Positive Sense Input Pin.", 3 -IN (in) "Negative Sense Input Pin.", 4 V+ (power) "Power Supply Voltage. Pins 1 and 4 are tied internally together. The specified range of operation is 4.5V to 5.5V, but lower supply voltages (down to approximately 4V) is possible although the LT1999 is not tested or (See Datasheet)", 5 GND (power) "Ground Pin.", 6 REF (in) "Reference Pin Input. The REF pin sets the output common mode level and is set halfway between V+ and GND using a divider made of two 160k resistors. The default open circuit potential of the REF pin is mid-supply. It can be (See Datasheet)", 7 OUT (out) "Voltage Output. VOUT = AV•(VSENSE +/- VOSI), where AV is the gain, and VOSI is the input referred offset voltage. The output amplifier has a low impedance output and is designed to drive up to 200pF capacitive loads directly.(See Datasheet)", 8 ~{SHDN} (in) "Shutdown Pin. When pulled to within 0.5V of GND (Pin 5), will place the LT1999 into low power shutdown. If the pin is left floating, an internal 2uA pullup current source will place the LT1999 into the active (amplifying) (See Datasheet)"

## LT1999IS8-10#PBF
designator U?
Single Channel, High Voltage, Bidirectional Current Sense Amplifier, 2 MHz Typical GBW, 3 V/us Typical SR, 4.5 to 5.5 V, 8-Pin SOIC (S8-8), Industrial, Pb-Free; Linear Technology Part Number: LT1999-10; Manufacturer: Linear Technology; PartNumber: LT1999IS8-10#PBF; Channels (#): 1; GBW (MHz) Typical: 2; Is (mA) Typical: 1.55; SR (V/us) Typical: 3; Vos (mV) Typical: 0.5; Vs Max (V): 5.5; Vs Min (V): 4.5; DatasheetVersion: Rev. B; PackageVersion: Rev G; PackageReference: LT-S8-8; PackageDescription: 8-Pin Plastic Small Outline, Body 4.9 x 3.9 mm, Pitch 1.27 mm; Supplier 1: Digi-Key; Supplier Part Number 1: LT1999IS8-10#PBF-ND; Supplier 2: Farnell; Supplier Part Number 2: 1868106; RoHS: Pb-Free; Type: CSA; Mounting Technology: Surface Mount; ComponentLink1Description: Manufacturer URL; ComponentLink1URL: http://www.linear.com/; ComponentLink2Description: Datasheet; ComponentLink2URL: http://cds.linear.com/docs/en/datasheet/1999fb.pdf; ComponentLink3Description: Package Specification; ComponentLink3URL: http://cds.linear.com/docs/en/packaging/05081610_G_SO8.pdf
footprint LT-S8-8_N (SOIC, 8-Leads, Body 4.9x3.9mm, Pitch 1.27mm, IPC Medium Density)
footprint LT-S8-8_L (SOIC, 8-Leads, Body 4.9x3.9mm, Pitch 1.27mm, IPC High Density)
footprint LT-S8-8_M (SOIC, 8-Leads, Body 4.9x3.9mm, Pitch 1.27mm, IPC Low Density)
pins: 1 V+ (power) "Power Supply Voltage. Pins 1 and 4 are tied internally together. The specified range of operation is 4.5V to 5.5V, but lower supply voltages (down to approximately 4V) is possible although the LT1999 is not tested or (See Datasheet)", 2 +IN (in) "Positive Sense Input Pin.", 3 -IN (in) "Negative Sense Input Pin.", 4 V+ (power) "Power Supply Voltage. Pins 1 and 4 are tied internally together. The specified range of operation is 4.5V to 5.5V, but lower supply voltages (down to approximately 4V) is possible although the LT1999 is not tested or (See Datasheet)", 5 GND (power) "Ground Pin.", 6 REF (in) "Reference Pin Input. The REF pin sets the output common mode level and is set halfway between V+ and GND using a divider made of two 160k resistors. The default open circuit potential of the REF pin is mid-supply.It can be (See Datasheet)", 7 OUT (out) "Voltage Output. VOUT = AV•(VSENSE +/- VOSI),where AV is the gain, and VOSI is the input referred offset voltage. The output amplifier has a low impedance output and is designed to drive up to 200pF capacitive loads directly. (See Datasheet)", 8 ~{SHDN} (in) "Shutdown Pin. When pulled to within 0.5V of GND (Pin 5), will place the LT1999 into low power shutdown. If the pin is left floating, an internal 2uA pullup current source will place the LT1999 into the active (amplifying) (See Datasheet)"

## LT1999IS8-10#TRPBF
designator U?
Single Channel, High Voltage, Bidirectional Current Sense Amplifier, 2 MHz Typical GBW, 3 V/us Typical SR, 4.5 to 5.5 V, 8-Pin SOIC (S8-8), Industrial, Pb-Free, Reel; Linear Technology Part Number: LT1999-10; Manufacturer: Linear Technology; PartNumber: LT1999IS8-10#TRPBF; Channels (#): 1; GBW (MHz) Typical: 2; Is (mA) Typical: 1.55; SR (V/us) Typical: 3; Vos (mV) Typical: 0.5; Vs Max (V): 5.5; Vs Min (V): 4.5; DatasheetVersion: Rev. B; PackageVersion: Rev G; PackageReference: LT-S8-8; PackageDescription: 8-Pin Plastic Small Outline, Body 4.9 x 3.9 mm, Pitch 1.27 mm; Supplier 1: Digi-Key; Supplier Part Number 1: LT1999IS8-10#TRPBF-ND; Packing: Reel; RoHS: Pb-Free; Type: CSA; Mounting Technology: Surface Mount; ComponentLink1Description: Manufacturer URL; ComponentLink1URL: http://www.linear.com/; ComponentLink2Description: Datasheet; ComponentLink2URL: http://cds.linear.com/docs/en/datasheet/1999fb.pdf; ComponentLink3Description: Package Specification; ComponentLink3URL: http://cds.linear.com/docs/en/packaging/05081610_G_SO8.pdf
footprint LT-S8-8_N (SOIC, 8-Leads, Body 4.9x3.9mm, Pitch 1.27mm, IPC Medium Density)
footprint LT-S8-8_L (SOIC, 8-Leads, Body 4.9x3.9mm, Pitch 1.27mm, IPC High Density)
footprint LT-S8-8_M (SOIC, 8-Leads, Body 4.9x3.9mm, Pitch 1.27mm, IPC Low Density)
pins: 1 V+ (power) "Power Supply Voltage. Pins 1 and 4 are tied internally together. The specified range of operation is 4.5V to 5.5V, but lower supply voltages (down to approximately 4V) is possible although the LT1999 is not tested or (See Datasheet)", 2 +IN (in) "Positive Sense Input Pin.", 3 -IN (in) "Negative Sense Input Pin.", 4 V+ (power) "Power Supply Voltage. Pins 1 and 4 are tied internally together. The specified range of operation is 4.5V to 5.5V, but lower supply voltages (down to approximately 4V) is possible although the LT1999 is not tested or (See Datasheet)", 5 GND (power) "Ground Pin.", 6 REF (in) "Reference Pin Input. The REF pin sets the output common mode level and is set halfway between V+ and GND using a divider made of two 160k resistors. The default open circuit potential of the REF pin is mid-supply.It can be (See Datasheet)", 7 OUT (out) "Voltage Output. VOUT = AV•(VSENSE +/- VOSI),where AV is the gain, and VOSI is the input referred offset voltage. The output amplifier has a low impedance output and is designed to drive up to 200pF capacitive loads directly. (See Datasheet)", 8 ~{SHDN} (in) "Shutdown Pin. When pulled to within 0.5V of GND (Pin 5), will place the LT1999 into low power shutdown. If the pin is left floating, an internal 2uA pullup current source will place the LT1999 into the active (amplifying) (See Datasheet)"

## LT1999IS8-20#PBF
designator U?
Single Channel, High Voltage, Bidirectional Current Sense Amplifier, 2 MHz Typical GBW, 3 V/us Typical SR, 4.5 to 5.5 V, 8-Pin SOIC (S8-8), Industrial, Pb-Free; Linear Technology Part Number: LT1999-20; Manufacturer: Linear Technology; PartNumber: LT1999IS8-20#PBF; Channels (#): 1; GBW (MHz) Typical: 2; Is (mA) Typical: 1.55; SR (V/us) Typical: 3; Vos (mV) Typical: 0.5; Vs Max (V): 5.5; Vs Min (V): 4.5; DatasheetVersion: Rev. B; PackageVersion: Rev G; PackageReference: LT-S8-8; PackageDescription: 8-Pin Plastic Small Outline, Body 4.9 x 3.9 mm, Pitch 1.27 mm; Supplier 1: Digi-Key; Supplier Part Number 1: LT1999IS8-20#PBF-ND; Supplier 2: Farnell; Supplier Part Number 2: 1868107; RoHS: Pb-Free; Type: CSA; Mounting Technology: Surface Mount; ComponentLink1Description: Manufacturer URL; ComponentLink1URL: http://www.linear.com/; ComponentLink2Description: Datasheet; ComponentLink2URL: http://cds.linear.com/docs/en/datasheet/1999fb.pdf; ComponentLink3Description: Package Specification; ComponentLink3URL: http://cds.linear.com/docs/en/packaging/05081610_G_SO8.pdf
footprint LT-S8-8_N (SOIC, 8-Leads, Body 4.9x3.9mm, Pitch 1.27mm, IPC Medium Density)
footprint LT-S8-8_L (SOIC, 8-Leads, Body 4.9x3.9mm, Pitch 1.27mm, IPC High Density)
footprint LT-S8-8_M (SOIC, 8-Leads, Body 4.9x3.9mm, Pitch 1.27mm, IPC Low Density)
pins: 1 V+ (power) "Power Supply Voltage. Pins 1 and 4 are tied internally together. The specified range of operation is 4.5V to 5.5V, but lower supply voltages (down to approximately 4V) is possible although the LT1999 is not tested or (See Datasheet)", 2 +IN (in) "Positive Sense Input Pin.", 3 -IN (in) "Negative Sense Input Pin.", 4 V+ (power) "Power Supply Voltage. Pins 1 and 4 are tied internally together. The specified range of operation is 4.5V to 5.5V, but lower supply voltages (down to approximately 4V) is possible although the LT1999 is not tested or (See Datasheet)", 5 GND (power) "Ground Pin.", 6 REF (in) "Reference Pin Input. The REF pin sets the output common mode level and is set halfway between V+ and GND using a divider made of two 160k resistors. The default open circuit potential of the REF pin is mid-supply.It can be (See Datasheet)", 7 OUT (out) "Voltage Output. VOUT = AV•(VSENSE +/- VOSI),where AV is the gain, and VOSI is the input referred offset voltage. The output amplifier has a low impedance output and is designed to drive up to 200pF capacitive loads directly. (See Datasheet)", 8 ~{SHDN} (in) "Shutdown Pin. When pulled to within 0.5V of GND (Pin 5), will place the LT1999 into low power shutdown. If the pin is left floating, an internal 2uA pullup current source will place the LT1999 into the active (amplifying) (See Datasheet)"